# Altium schematic symbol library USB Connectors WR-USB.SchLib: 46 symbols
Pins are listed as number, name and electrical type; pins without a type are passive.

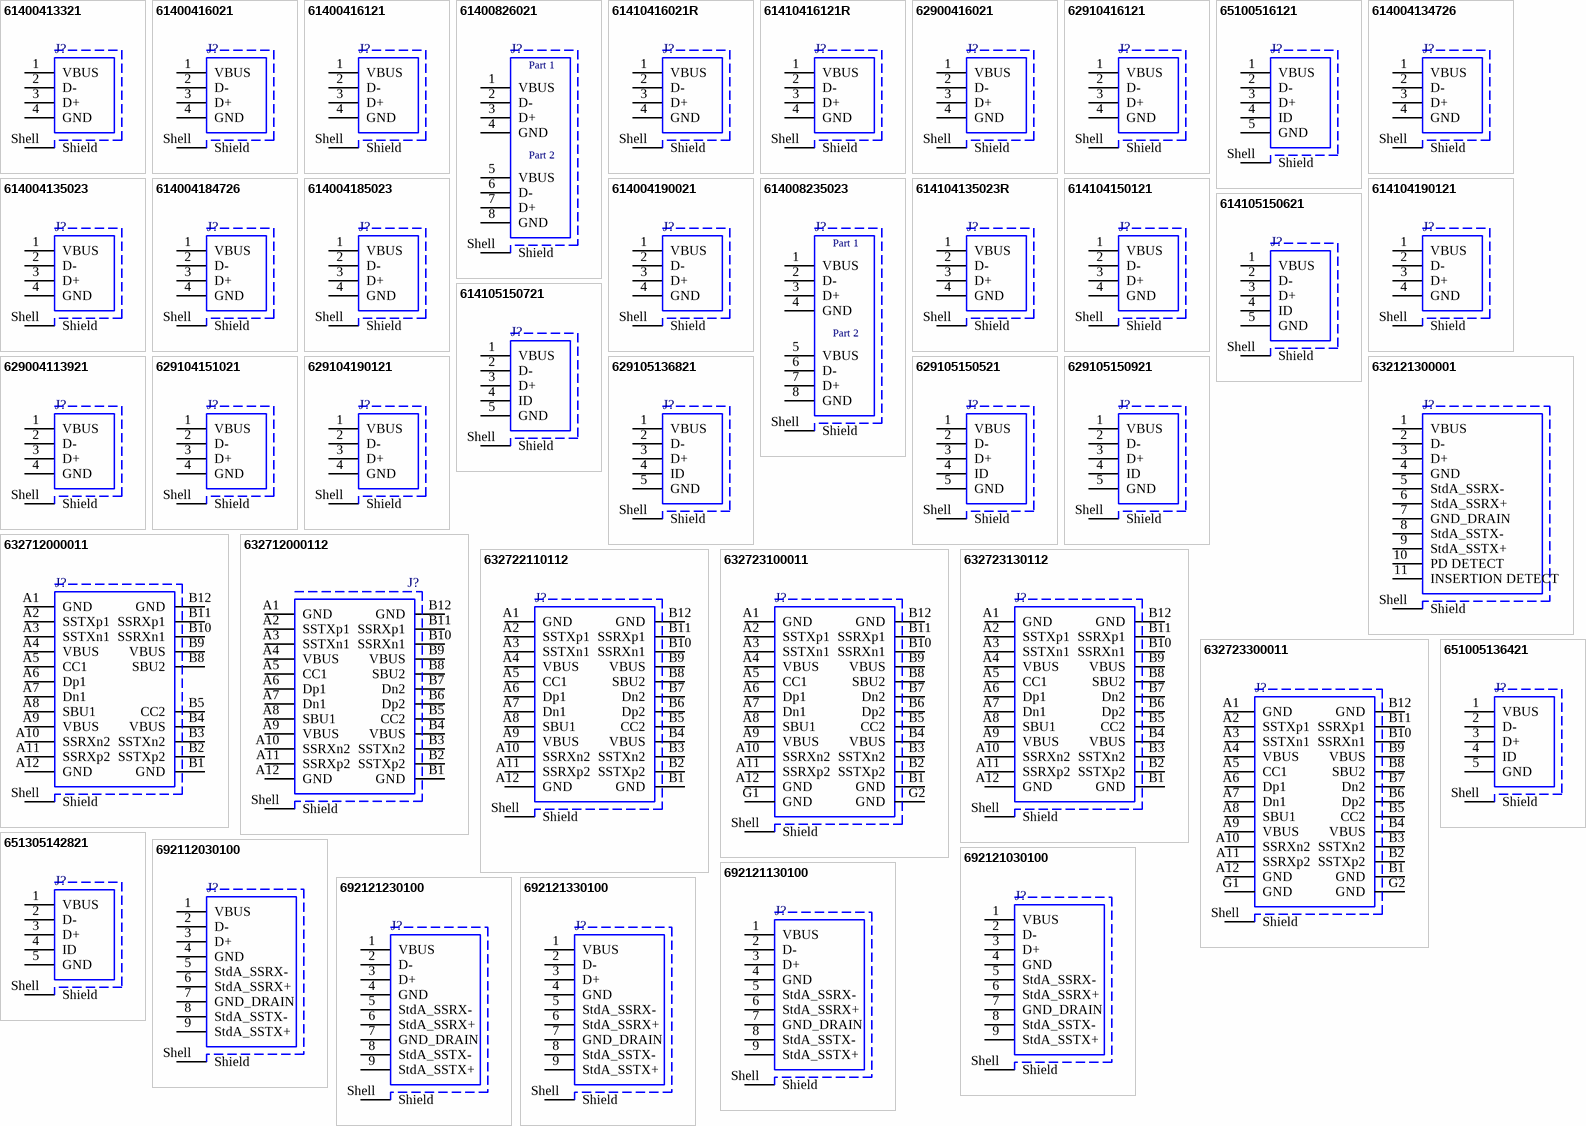
[diagram p0: symbols 61400413321 to 692121330100]

## 61400413321
designator J?
USB 2.0 Type B Receptacle WR-COM, Vertical, THT; Part Number: 61400413321; Rated Current: 1.5 A; Contact Resistance: 20 mOhm; Working Voltage: 30 VAC; ComponentLink1Description: Manufacturer; ComponentLink1URL: http://www.we-online.de; ComponentLink2Description: Datasheet; ComponentLink2URL: https://katalog.we-online.de/em/datasheet/61400413321.pdf; Published Date: September 2018; Publisher: Wurth Elektronik; Orientation: Vertical; Connector Type: USB 2.0 Type B; Operating Temperature: -40 to 105 degC; Mounting Technology: THT; Gender: Receptacle; Packaging: Tray
footprint 61400413321
pins: 1 VBUS, 2 D-, 3 D+, 4 GND, Shell Shield

## 61400416021
designator J?
USB 2.0 Type A Receptacle WR-COM, Horizontal, THT; Part Number: 61400416021; Rated Current: 1.5 A; Contact Resistance: 20 mOhm; Working Voltage: 30 VAC; ComponentLink1Description: Manufacturer; ComponentLink1URL: http://www.we-online.de; ComponentLink2Description: Datasheet; ComponentLink2URL: https://katalog.we-online.de/em/datasheet/61400416021.pdf; Published Date: September 2018; Publisher: Wurth Elektronik; Orientation: Horizontal; Connector Type: USB 2.0 Type A; Operating Temperature: -40 to 105 degC; Mounting Technology: THT; Gender: Receptacle; Packaging: Tray
footprint 61400416021
pins: 1 VBUS, 2 D-, 3 D+, 4 GND, Shell Shield

## 61400416121
designator J?
USB 2.0 Type B Receptacle WR-COM, Horizontal, THT, with Pads and Pegs; Part Number: 61400416121; Rated Current: 1.5 A; Contact Resistance: 20 mOhm; Working Voltage: 30 VAC; ComponentLink1Description: Manufacturer; ComponentLink1URL: http://www.we-online.de; ComponentLink2Description: Datasheet; ComponentLink2URL: https://katalog.we-online.de/em/datasheet/61400416121.pdf; Published Date: September 2018; Publisher: Wurth Elektronik; Orientation: Horizontal; Connector Type: USB 2.0 Type B; Operating Temperature: -40 to 105 degC; Mounting Technology: THT; Gender: Receptacle; Packaging: Tray
footprint 61400416121
pins: 1 VBUS, 2 D-, 3 D+, 4 GND, Shell Shield

## 61400826021
designator J?
USB 2.0 Type A Receptacle WR-COM, Stacked Horizontal, THT; Part Number: 61400826021; Rated Current: 1.5 A; Contact Resistance: 20 mOhm; Working Voltage: 30 VAC; ComponentLink1Description: Manufacturer; ComponentLink1URL: http://www.we-online.de; ComponentLink2Description: Datasheet; ComponentLink2URL: https://katalog.we-online.de/em/datasheet/61400826021.pdf; Published Date: September 2018; Publisher: Wurth Elektronik; Orientation: Stacked Horizontal; Connector Type: USB 2.0 Type A; Operating Temperature: -40 to 105 degC; Mounting Technology: THT; Gender: Receptacle; Packaging: Tray
footprint 61400826021
pins: 1 VBUS, 2 D-, 3 D+, 4 GND, 5 VBUS, 6 D-, 7 D+, 8 GND, Shell Shield
text: Part 1; Part 2

## 61410416021R
designator J?
USB 2.0 Type A Receptacle WR-COM, Horizontal, SMT; Part Number: 61410416021R; Rated Current: 1.5 A; Contact Resistance: 30 mOhm; Working Voltage: 30 VAC; ComponentLink1Description: Manufacturer; ComponentLink1URL: http://www.we-online.de; ComponentLink2Description: Datasheet; ComponentLink2URL: https://katalog.we-online.de/em/datasheet/61410416021R.pdf; Published Date: September 2018; Publisher: Wurth Elektronik; Orientation: Horizontal; Connector Type: USB 2.0 Type A; Operating Temperature: -55 to 85 degC; Mounting Technology: SMT; Gender: Receptacle; Packaging: Tape and Reel
footprint 61410416021R
pins: 1 VBUS, 2 D-, 3 D+, 4 GND, Shell Shield

## 61410416121R
designator J?
USB 2.0 Type B Receptacle WR-COM, Horizontal, SMT; Part Number: 61410416121R; Rated Current: 1.5 A; Contact Resistance: 30 mOhm; Working Voltage: 30 VAC; ComponentLink1Description: Manufacturer; ComponentLink1URL: http://www.we-online.de; ComponentLink2Description: Datasheet; ComponentLink2URL: https://katalog.we-online.de/em/datasheet/61410416121R.pdf; Published Date: September 2018; Publisher: Wurth Elektronik; Orientation: Horizontal; Connector Type: USB 2.0 Type B; Operating Temperature: -55 to 85 degC; Mounting Technology: SMT; Gender: Receptacle; Packaging: Tape and Reel
footprint 61410416121R
pins: 1 VBUS, 2 D-, 3 D+, 4 GND, Shell Shield

## 62900416021
designator J?
USB 2.0 Type A Receptacle WR-COM, Horizontal, SMT; Part Number: 62900416021; Rated Current: 1.5 A; Contact Resistance: 20 mOhm; Working Voltage: 30 VAC; ComponentLink1Description: Manufacturer; ComponentLink1URL: http://www.we-online.de; ComponentLink2Description: Datasheet; ComponentLink2URL: https://katalog.we-online.de/em/datasheet/62900416021.pdf; Published Date: September 2018; Publisher: Wurth Elektronik; Orientation: Horizontal; Connector Type: USB 2.0 Type A; Operating Temperature: -40 to 105 degC; Mounting Technology: SMT; Gender: Receptacle; Packaging: Tray
footprint 62900416021
pins: 1 VBUS, 2 D-, 3 D+, 4 GND, Shell Shield

## 62910416121
designator J?
USB 2.0 Type B Receptacle WR-COM, Horizontal, SMT, with Pads and Pegs; Part Number: 62910416121; Rated Current: 1.5 A; Contact Resistance: 20 mOhm; Working Voltage: 30 VAC; ComponentLink1Description: Manufacturer; ComponentLink1URL: http://www.we-online.de; ComponentLink2Description: Datasheet; ComponentLink2URL: https://katalog.we-online.de/em/datasheet/62910416121.pdf; Published Date: September 2018; Publisher: Wurth Elektronik; Orientation: Horizontal; Connector Type: USB 2.0 Type B; Operating Temperature: -40 to 105 degC; Mounting Technology: SMT; Gender: Receptacle; Packaging: Tape and Reel
footprint 62910416121
pins: 1 VBUS, 2 D-, 3 D+, 4 GND, Shell Shield

## 65100516121
designator J?
Mini USB 2.0 Type B Receptacle WR-COM, Horizontal, SMT, with Pads and Pegs; Part Number: 65100516121; Rated Current: 1 A; Contact Resistance: 20 mOhm; Working Voltage: 30 VAC; ComponentLink1Description: Manufacturer; ComponentLink1URL: http://www.we-online.de; ComponentLink2Description: Datasheet; ComponentLink2URL: https://katalog.we-online.de/em/datasheet/65100516121.pdf; Published Date: September 2018; Publisher: Wurth Elektronik; Orientation: Horizontal; Connector Type: Mini USB 2.0 Type B; Operating Temperature: -40 to 105 degC; Mounting Technology: SMT; Gender: Receptacle; Packaging: Tape and Reel
footprint 65100516121
pins: 1 VBUS, 2 D-, 3 D+, 4 ID, 5 GND, Shell Shield

## 614004134726
designator J?
USB 2.0 Type A Receptacle WR-COM, Up Right, THT; Part Number: 614004134726; Rated Current: 1.5 A; Contact Resistance: 20 mOhm; Working Voltage: 30 VAC; ComponentLink1Description: Manufacturer; ComponentLink1URL: http://www.we-online.de; ComponentLink2Description: Datasheet; ComponentLink2URL: https://katalog.we-online.de/em/datasheet/614004134726.pdf; Published Date: September 2018; Publisher: Wurth Elektronik; Orientation: Up Right; Connector Type: USB 2.0 Type A; Operating Temperature: -40 to 105 degC; Mounting Technology: THT; Gender: Receptacle; Packaging: Tray
footprint 614004134726
pins: 1 VBUS, 2 D-, 3 D+, 4 GND, Shell Shield

## 614004135023
designator J?
USB 2.0 Type A Receptacle WR-COM, Vertical, THT; Part Number: 614004135023; Rated Current: 1.5 A; Contact Resistance: 20 mOhm; Working Voltage: 30 VAC; ComponentLink1Description: Manufacturer; ComponentLink1URL: http://www.we-online.de; ComponentLink2Description: Datasheet; ComponentLink2URL: https://katalog.we-online.de/em/datasheet/614004135023.pdf; Published Date: September 2018; Publisher: Wurth Elektronik; Orientation: Vertical; Connector Type: USB 2.0 Type A; Operating Temperature: -40 to 105 degC; Mounting Technology: THT; Gender: Receptacle; Packaging: Tray
footprint 614004135023
pins: 1 VBUS, 2 D-, 3 D+, 4 GND, Shell Shield

## 614004184726
designator J?
USB 2.0 Type A Receptacle WR-COM, Up Right, THT, Short Type; Part Number: 614004184726; Rated Current: 2 A; Contact Resistance: 30 mOhm; Working Voltage: 30 VAC; ComponentLink1Description: Manufacturer; ComponentLink1URL: http://www.we-online.de; ComponentLink2Description: Datasheet; ComponentLink2URL: https://katalog.we-online.de/em/datasheet/614004184726.pdf; Published Date: September 2018; Publisher: Wurth Elektronik; Orientation: Up Right; Connector Type: USB 2.0 Type A; Operating Temperature: -40 to 85 degC; Mounting Technology: THT; Gender: Receptacle; Packaging: Tray
footprint 614004184726
pins: 1 VBUS, 2 D-, 3 D+, 4 GND, Shell Shield

## 614004185023
designator J?
USB 2.0 Type A Receptacle WR-COM, Vertical, THT, Short Type; Part Number: 614004185023; Rated Current: 1.5 A; Contact Resistance: 30 mOhm; Working Voltage: 30 VAC; ComponentLink1Description: Manufacturer; ComponentLink1URL: http://www.we-online.de; ComponentLink2Description: Datasheet; ComponentLink2URL: https://katalog.we-online.de/em/datasheet/614004185023.pdf; Published Date: September 2018; Publisher: Wurth Elektronik; Orientation: Vertical; Connector Type: USB 2.0 Type A; Operating Temperature: -55 to 85 degC; Mounting Technology: THT; Gender: Receptacle; Packaging: Tray
footprint 614004185023
pins: 1 VBUS, 2 D-, 3 D+, 4 GND, Shell Shield

## 614004190021
designator J?
USB 2.0 Type A Receptacle WR-COM, Horizontal, THT, with High Current at Pin 1 & 4; Part Number: 614004190021; Rated Current: 3 A; Contact Resistance: 30 mOhm; Working Voltage: 30 VAC; ComponentLink1Description: Manufacturer; ComponentLink1URL: http://www.we-online.de; ComponentLink2Description: Datasheet; ComponentLink2URL: https://katalog.we-online.de/em/datasheet/614004190021.pdf; Published Date: September 2018; Publisher: Wurth Elektronik; Orientation: Horizontal; Connector Type: USB 2.0 Type A; Operating Temperature: -40 to 85 degC; Mounting Technology: THT; Gender: Receptacle; Packaging: Tray
footprint 614004190021
pins: 1 VBUS, 2 D-, 3 D+, 4 GND, Shell Shield

## 614008235023
designator J?
USB 2.0 Type A Receptacle WR-COM, Stacked Vertical, THT; Part Number: 614008235023; Rated Current: 1.5 A; Contact Resistance: 20 mOhm; Working Voltage: 30 VAC; ComponentLink1Description: Manufacturer; ComponentLink1URL: http://www.we-online.de; ComponentLink2Description: Datasheet; ComponentLink2URL: https://katalog.we-online.de/em/datasheet/614008235023.pdf; Published Date: September 2018; Publisher: Wurth Elektronik; Orientation: Stacked Vertical; Connector Type: USB 2.0 Type A; Operating Temperature: -40 to 105 degC; Mounting Technology: THT; Gender: Receptacle; Packaging: Tray
footprint 614008235023
pins: 1 VBUS, 2 D-, 3 D+, 4 GND, 5 VBUS, 6 D-, 7 D+, 8 GND, Shell Shield
text: Part 1; Part 2

## 614104135023R
designator J?
USB 2.0 Type A Receptacle WR-COM, Vertical, SMT; Part Number: 614104135023R; Rated Current: 1.5 A; Contact Resistance: 30 mOhm; Working Voltage: 30 VAC; ComponentLink1Description: Manufacturer; ComponentLink1URL: http://www.we-online.de; ComponentLink2Description: Datasheet; ComponentLink2URL: https://katalog.we-online.de/em/datasheet/614104135023R.pdf; Published Date: September 2018; Publisher: Wurth Elektronik; Orientation: Vertical; Connector Type: USB 2.0 Type A; Operating Temperature: -55 to 85 degC; Mounting Technology: SMT; Gender: Receptacle; Packaging: Tape and Reel
footprint 614104135023R
pins: 1 VBUS, 2 D-, 3 D+, 4 GND, Shell Shield

## 614104150121
designator J?
USB 2.0 Type A Receptacle WR-COM, Horizontal, THT, with Clips; Part Number: 614104150121; Rated Current: 1.5 A; Contact Resistance: 30 mOhm; Working Voltage: 30 VAC; ComponentLink1Description: Manufacturer; ComponentLink1URL: http://www.we-online.de; ComponentLink2Description: Datasheet; ComponentLink2URL: https://katalog.we-online.de/em/datasheet/614104150121%282%29.pdf; Published Date: September 2018; Publisher: Wurth Elektronik; Orientation: Horizontal; Connector Type: USB 2.0 Type A; Operating Temperature: -40 to 85 degC; Mounting Technology: THT; Gender: Receptacle; Packaging: Tape and Reel
footprint 614104150121
pins: 1 VBUS, 2 D-, 3 D+, 4 GND, Shell Shield

## 614104190121
designator J?
USB 2.0 Type A Receptacle WR-COM, Horizontal, THT, Short Type with Clips; Part Number: 614104190121; Rated Current: 1.5 A; Contact Resistance: 30 mOhm; Working Voltage: 30 VAC; ComponentLink1Description: Manufacturer; ComponentLink1URL: http://www.we-online.de; ComponentLink2Description: Datasheet; ComponentLink2URL: https://katalog.we-online.de/em/datasheet/614104190121.pdf; Published Date: September 2018; Publisher: Wurth Elektronik; Orientation: Horizontal; Connector Type: USB 2.0 Type A; Operating Temperature: -55 to 85 degC; Mounting Technology: THT; Gender: Receptacle; Packaging: Tape and Reel
footprint 614104190121
pins: 1 VBUS, 2 D-, 3 D+, 4 GND, Shell Shield

## 614105150621
designator J?
Micro USB 2.0 Type AB Receptacle WR-COM, Vertical, THT; Part Number: 614105150621; Rated Current: 1.8 A; Contact Resistance: 30 mOhm; Working Voltage: 30 VAC; ComponentLink1Description: Manufacturer; ComponentLink1URL: http://www.we-online.de; ComponentLink2Description: Datasheet; ComponentLink2URL: https://katalog.we-online.de/em/datasheet/614105150621.pdf; Published Date: September 2018; Publisher: Wurth Elektronik; Orientation: Vertical; Connector Type: Micro USB 2.0 Type AB; Operating Temperature: -40 to 85 degC; Mounting Technology: THT; Gender: Receptacle; Packaging: Tape and Reel
footprint 614105150621
pins: 1 VBUS, 2 D-, 3 D+, 4 ID, 5 GND, Shell Shield

## 614105150721
designator J?
Micro USB 2.0 Type B Receptacle WR-COM, Vertical, THT; Part Number: 614105150721; Rated Current: 1.8 A; Contact Resistance: 30 mOhm; Working Voltage: 30 VAC; ComponentLink1Description: Manufacturer; ComponentLink1URL: http://www.we-online.de; ComponentLink2Description: Datasheet; ComponentLink2URL: https://katalog.we-online.de/em/datasheet/614105150721.pdf; Published Date: September 2018; Publisher: Wurth Elektronik; Orientation: Vertical; Connector Type: Micro USB 2.0 Type B; Operating Temperature: -40 to 85 degC; Mounting Technology: THT; Gender: Receptacle; Packaging: Tape and Reel
footprint 614105150721
pins: 1 VBUS, 2 D-, 3 D+, 4 ID, 5 GND, Shell Shield

## 629004113921
designator J?
USB 2.0 Type A Plug WR-COM, Horizontal, SMT, with Clips; Part Number: 629004113921; Rated Current: 1.5 A; Contact Resistance: 20 mOhm; Working Voltage: 30 VAC; ComponentLink1Description: Manufacturer; ComponentLink1URL: http://www.we-online.de; ComponentLink2Description: Datasheet; ComponentLink2URL: https://katalog.we-online.de/em/datasheet/629004113921.pdf; Published Date: September 2018; Publisher: Wurth Elektronik; Orientation: Horizontal; Connector Type: USB 2.0 Type A; Operating Temperature: -40 to 105 degC; Mounting Technology: SMT; Gender: Plug; Packaging: Tube
footprint 629004113921
pins: 1 VBUS, 2 D-, 3 D+, 4 GND, Shell Shield

## 629104151021
designator J?
USB 2.0 Type A Receptacle WR-COM, Horizontal, SMT, with Pegs; Part Number: 629104151021; Rated Current: 1.5 A; Contact Resistance: 30 mOhm; Working Voltage: 30 VAC; ComponentLink1Description: Manufacturer; ComponentLink1URL: http://www.we-online.de; ComponentLink2Description: Datasheet; ComponentLink2URL: https://katalog.we-online.de/em/datasheet/629104151021.pdf; Published Date: September 2018; Publisher: Wurth Elektronik; Orientation: Horizontal; Connector Type: USB 2.0 Type A; Operating Temperature: -40 to 85 degC; Mounting Technology: SMT; Gender: Receptacle; Packaging: Tape and Reel
footprint 629104151021
pins: 1 VBUS, 2 D-, 3 D+, 4 GND, Shell Shield

## 629104190121
designator J?
USB 2.0 Type A Receptacle WR-COM, Horizontal, SMT, Short Type with Pads and Pegs; Part Number: 629104190121; Rated Current: 1.5 A; Contact Resistance: 30 mOhm; Working Voltage: 30 VAC; ComponentLink1Description: Manufacturer; ComponentLink1URL: http://www.we-online.de; ComponentLink2Description: Datasheet; ComponentLink2URL: https://katalog.we-online.de/em/datasheet/629104190121.pdf; Published Date: September 2018; Publisher: Wurth Elektronik; Orientation: Horizontal; Connector Type: USB 2.0 Type A; Operating Temperature: -40 to 85 degC; Mounting Technology: SMT; Gender: Receptacle; Packaging: Tape and Reel
footprint 629104190121
pins: 1 VBUS, 2 D-, 3 D+, 4 GND, Shell Shield

## 629105136821
designator J?
Micro USB 2.0 Type B Receptacle WR-COM, Horizontal, SMT, with Pads and Pegs; Part Number: 629105136821; Rated Current: 1 A; Contact Resistance: 30 mOhm; Working Voltage: 30 VAC; ComponentLink1Description: Manufacturer; ComponentLink1URL: http://www.we-online.de; ComponentLink2Description: Datasheet; ComponentLink2URL: https://katalog.we-online.de/em/datasheet/629105136821.pdf; Published Date: September 2018; Publisher: Wurth Elektronik; Orientation: Horizontal; Connector Type: Micro USB 2.0 Type B; Operating Temperature: -40 to 105 degC; Mounting Technology: SMT; Gender: Receptacle; Packaging: Tape and Reel
footprint 629105136821
pins: 1 VBUS, 2 D-, 3 D+, 4 ID, 5 GND, Shell Shield

## 629105150521
designator J?
Micro USB 2.0 Type B Receptacle WR-COM, Horizontal, SMT, with Pegs, High Current at Pin 1 & Pin 5; Part Number: 629105150521; Rated Current: 3 A; Contact Resistance: 30 mOhm; Working Voltage: 30 VAC; ComponentLink1Description: Manufacturer; ComponentLink1URL: http://www.we-online.de; ComponentLink2Description: Datasheet; ComponentLink2URL: https://katalog.we-online.de/em/datasheet/629105150521.pdf; Published Date: September 2018; Publisher: Wurth Elektronik; Orientation: Horizontal; Connector Type: Micro USB 2.0 Type B; Operating Temperature: -40 to 85 degC; Mounting Technology: SMT; Gender: Receptacle; Packaging: Tape and Reel
footprint 629105150521
pins: 1 VBUS, 2 D-, 3 D+, 4 ID, 5 GND, Shell Shield

## 629105150921
designator J?
Micro USB 2.0 Type AB Receptacle WR-COM, Horizontal, SMT; Part Number: 629105150921; Rated Current: 1.8 A; Contact Resistance: 30 mOhm; Working Voltage: 30 VAC; ComponentLink1Description: Manufacturer; ComponentLink1URL: http://www.we-online.de; ComponentLink2Description: Datasheet; ComponentLink2URL: https://katalog.we-online.de/em/datasheet/629105150921.pdf; Published Date: September 2018; Publisher: Wurth Elektronik; Orientation: Horizontal; Connector Type: Micro USB 2.0 Type AB; Operating Temperature: -40 to 85 degC; Mounting Technology: SMT; Gender: Receptacle; Packaging: Tape and Reel
footprint 629105150921
pins: 1 VBUS, 2 D-, 3 D+, 4 ID, 5 GND, Shell Shield

## 632121300001
designator J?
USB 3.1 Type A Receptacle WR-COM, Horizontal, THT; Part Number: 632121300001; Rated Current: 5 A; Contact Resistance: 50 mOhm; Working Voltage: 20 VDC; ComponentLink1Description: Manufacturer; ComponentLink1URL: http://www.we-online.de; ComponentLink2Description: Datasheet; ComponentLink2URL: https://katalog.we-online.de/em/datasheet/632121300001.pdf; Published Date: September 2018; Publisher: Wurth Elektronik; Orientation: Horizontal; Connector Type: USB 3.1 Type A; Operating Temperature: -20 to 85 degC; Mounting Technology: THT; Gender: Receptacle; Packaging: Tray
footprint 632121300001
pins: 1 VBUS, 2 D-, 3 D+, 4 GND, 5 StdA_SSRX-, 6 StdA_SSRX+, 7 GND_DRAIN, 8 StdA_SSTX-, 9 StdA_SSTX+, 10 PD DETECT, 11 INSERTION DETECT, Shell Shield

## 632712000011
designator J?
USB 3.1 Type C Plug WR-COM, Horizontal, SMT; Part Number: 632712000011; Rated Current: 5 A; Contact Resistance: 30 mOhm; Working Voltage: 20 VDC; ComponentLink1Description: Manufacturer; ComponentLink1URL: http://www.we-online.de; ComponentLink2Description: Datasheet; ComponentLink2URL: https://katalog.we-online.de/em/datasheet/632712000011.pdf; Published Date: September 2018; Publisher: Wurth Elektronik; Orientation: Horizontal; Connector Type: USB 3.1 Type C; Operating Temperature: -25 to 105 degC; Mounting Technology: SMT; Gender: Plug; Packaging: Tape and Reel
footprint 632712000011
pins: A1 GND, A2 SSTXp1, A3 SSTXn1, A4 VBUS, A5 CC1, A6 Dp1, A7 Dn1, A8 SBU1, A9 VBUS, A10 SSRXn2, A11 SSRXp2, A12 GND, B1 GND, B2 SSTXp2, B3 SSTXn2, B4 VBUS, B5 CC2, B8 SBU2, B9 VBUS, B10 SSRXn1, B11 SSRXp1, B12 GND, Shell Shield

## 632712000112
designator J?
USB 3.1 Type C Plug WR-COM, Horizontal, SMT; Part Number: 632712000112; Rated Current: 5 A; Working Voltage: 20 VDC; Contact Resistance: 40 mOhm; ComponentLink1Description: Manufacturer; ComponentLink1URL: http://www.we-online.de; ComponentLink2Description: Datasheet; ComponentLink2URL: https://katalog.we-online.de/em/datasheet/632712000112.pdf; Published Date: November 2018; Publisher: Wurth Elektronik; Orientation: Horizontal; Connector Type: USB 3.1 Type C; Operating Temperature: -40 to 85 degC; Mounting Technology: SMT; Gender: Plug; Packaging: Tray
footprint 632712000112
pins: A1 GND, A2 SSTXp1, A3 SSTXn1, A4 VBUS, A5 CC1, A6 Dp1, A7 Dn1, A8 SBU1, A9 VBUS, A10 SSRXn2, A11 SSRXp2, A12 GND, B1 GND, B2 SSTXp2, B3 SSTXn2, B4 VBUS, B5 CC2, B6 Dp2, B7 Dn2, B8 SBU2, B9 VBUS, B10 SSRXn1, B11 SSRXp1, B12 GND, Shell Shield

## 632722110112
designator J?
USB 3.1 Type C Receptacle WR-COM, Vertical, SMT; Part Number: 632722110112; Rated Current: 5 A; Working Voltage: 20 VDC; Contact Resistance: 40 mOhm; ComponentLink1Description: Manufacturer; ComponentLink1URL: http://www.we-online.de; ComponentLink2Description: Datasheet; ComponentLink2URL: https://katalog.we-online.de/em/datasheet/632722110112.pdf; Published Date: November 2018; Publisher: Wurth Elektronik; Orientation: Vertical; Connector Type: USB 3.1 Type C; Operating Temperature: -40 to 85 degC; Mounting Technology: SMT; Gender: Receptacle; Packaging: Tape and Reel
footprint 632722110112
pins: A1 GND, A2 SSTXp1, A3 SSTXn1, A4 VBUS, A5 CC1, A6 Dp1, A7 Dn1, A8 SBU1, A9 VBUS, A10 SSRXn2, A11 SSRXp2, A12 GND, B1 GND, B2 SSTXp2, B3 SSTXn2, B4 VBUS, B5 CC2, B6 Dp2, B7 Dn2, B8 SBU2, B9 VBUS, B10 SSRXn1, B11 SSRXp1, B12 GND, Shell Shield

## 632723100011
designator J?
USB 3.1 Type C Receptacle WR-COM, Horizontal, SMT / THT; Part Number: 632723100011; Rated Current: 5 A; Contact Resistance: 30 mOhm; Working Voltage: 20 VDC; ComponentLink1Description: Manufacturer; ComponentLink1URL: http://www.we-online.de; ComponentLink2Description: Datasheet; ComponentLink2URL: https://katalog.we-online.de/em/datasheet/632723x00011%282%29.pdf; Published Date: September 2018; Publisher: Wurth Elektronik; Orientation: Horizontal; Connector Type: USB 3.1 Type C; Operating Temperature: -40 to 105 degC; Mounting Technology: SMT / THT; Gender: Receptacle; Packaging: Tape and Reel
footprint 632723100011
pins: A1 GND, A2 SSTXp1, A3 SSTXn1, A4 VBUS, A5 CC1, A6 Dp1, A7 Dn1, A8 SBU1, A9 VBUS, A10 SSRXn2, A11 SSRXp2, A12 GND, B1 GND, B2 SSTXp2, B3 SSTXn2, B4 VBUS, B5 CC2, B6 Dp2, B7 Dn2, B8 SBU2, B9 VBUS, B10 SSRXn1, B11 SSRXp1, B12 GND, G1 GND, G2 GND, Shell Shield

## 632723130112
designator J?
USB 3.1 Type C Receptacle WR-COM, Horizontal, THR / SMT; Part Number: 632723130112; Rated Current: 5 A; Working Voltage: 20 VDC; Contact Resistance: 40 mOhm; ComponentLink1Description: Manufacturer; ComponentLink1URL: http://www.we-online.de; ComponentLink2Description: Datasheet; ComponentLink2URL: https://katalog.we-online.de/em/datasheet/632723130112.pdf; Published Date: November 2018; Publisher: Wurth Elektronik; Orientation: Horizontal; Connector Type: USB 3.1 Type C; Operating Temperature: -40 to 85 degC; Mounting Technology: THR / SMT; Gender: Receptacle; Packaging: Tape and Reel
footprint 632723130112
pins: A1 GND, A2 SSTXp1, A3 SSTXn1, A4 VBUS, A5 CC1, A6 Dp1, A7 Dn1, A8 SBU1, A9 VBUS, A10 SSRXn2, A11 SSRXp2, A12 GND, B1 GND, B2 SSTXp2, B3 SSTXn2, B4 VBUS, B5 CC2, B6 Dp2, B7 Dn2, B8 SBU2, B9 VBUS, B10 SSRXn1, B11 SSRXp1, B12 GND, Shell Shield

## 632723300011
designator J?
USB 3.1 Type C Receptacle WR-COM, Horizontal, SMT / THT; Part Number: 632723300011; Rated Current: 5 A; Contact Resistance: 30 mOhm; Working Voltage: 20 VDC; ComponentLink1Description: Manufacturer; ComponentLink1URL: http://www.we-online.de; ComponentLink2Description: Datasheet; ComponentLink2URL: https://katalog.we-online.de/em/datasheet/632723x00011%282%29.pdf; Published Date: September 2018; Publisher: Wurth Elektronik; Orientation: Horizontal; Connector Type: USB 3.1 Type C; Operating Temperature: -40 to 105 degC; Mounting Technology: SMT / THT; Gender: Receptacle; Packaging: Tape and Reel
footprint 632723300011
pins: A1 GND, A2 SSTXp1, A3 SSTXn1, A4 VBUS, A5 CC1, A6 Dp1, A7 Dn1, A8 SBU1, A9 VBUS, A10 SSRXn2, A11 SSRXp2, A12 GND, B1 GND, B2 SSTXp2, B3 SSTXn2, B4 VBUS, B5 CC2, B6 Dp2, B7 Dn2, B8 SBU2, B9 VBUS, B10 SSRXn1, B11 SSRXp1, B12 GND, G1 GND, G2 GND, Shell Shield

## 651005136421
designator J?
Mini USB 2.0 Type B Receptacle WR-COM, Vertical, THT; Part Number: 651005136421; Rated Current: 1 A; Contact Resistance: 20 mOhm; Working Voltage: 30 VAC; ComponentLink1Description: Manufacturer; ComponentLink1URL: http://www.we-online.de; ComponentLink2Description: Datasheet; ComponentLink2URL: https://katalog.we-online.de/em/datasheet/651005136421%282%29.pdf; Published Date: September 2018; Publisher: Wurth Elektronik; Orientation: Vertical; Connector Type: Mini USB 2.0 Type B; Operating Temperature: -40 to 105 degC; Mounting Technology: THT; Gender: Receptacle; Packaging: Tray
footprint 651005136421
pins: 1 VBUS, 2 D-, 3 D+, 4 ID, 5 GND, Shell Shield

## 651305142821
designator J?
Mini USB 2.0 Type AB Receptacle WR-COM, Horizontal, SMT, with Pads; Part Number: 651305142821; Rated Current: 1 A; Contact Resistance: 20 mOhm; Working Voltage: 30 VAC; ComponentLink1Description: Manufacturer; ComponentLink1URL: http://www.we-online.de; ComponentLink2Description: Datasheet; ComponentLink2URL: https://katalog.we-online.de/em/datasheet/651305142821.pdf; Published Date: September 2018; Publisher: Wurth Elektronik; Orientation: Horizontal; Connector Type: Mini USB 2.0 Type AB; Operating Temperature: -40 to 105 degC; Mounting Technology: SMT; Gender: Receptacle; Packaging: Tape and Reel
footprint 651305142821
pins: 1 VBUS, 2 D-, 3 D+, 4 ID, 5 GND, Shell Shield

## 692112030100
designator J?
USB 3.0 Type A Plug WR-COM, Horizontal, SMT, with Pegs and Clips; Part Number: 692112030100; Rated Current: 0.25 A; Contact Resistance: 50 mOhm; Working Voltage: 30 VAC; ComponentLink1Description: Manufacturer; ComponentLink1URL: http://www.we-online.de; ComponentLink2Description: Datasheet; ComponentLink2URL: https://katalog.we-online.de/em/datasheet/692112030100.pdf; Published Date: September 2018; Publisher: Wurth Elektronik; Orientation: Horizontal; Connector Type: USB 3.0 Type A; Operating Temperature: -20 to 85 degC; Mounting Technology: SMT; Gender: Plug; Packaging: Tray
footprint 692112030100
pins: 1 VBUS, 2 D-, 3 D+, 4 GND, 5 StdA_SSRX-, 6 StdA_SSRX+, 7 GND_DRAIN, 8 StdA_SSTX-, 9 StdA_SSTX+, Shell Shield

## 692121030100
designator J?
USB 3.0 Type A Receptacle WR-COM, Horizontal, THT; Part Number: 692121030100; Rated Current: 0.25 A; Contact Resistance: 50 mOhm; Working Voltage: 30 VAC; ComponentLink1Description: Manufacturer; ComponentLink1URL: http://www.we-online.de; ComponentLink2Description: Datasheet; ComponentLink2URL: https://katalog.we-online.de/em/datasheet/692121030100.pdf; Published Date: September 2018; Publisher: Wurth Elektronik; Orientation: Horizontal; Connector Type: USB 3.0 Type A; Operating Temperature: -20 to 85 degC; Mounting Technology: THT; Gender: Receptacle; Packaging: Tape and Reel
footprint 692121030100
pins: 1 VBUS, 2 D-, 3 D+, 4 GND, 5 StdA_SSRX-, 6 StdA_SSRX+, 7 GND_DRAIN, 8 StdA_SSTX-, 9 StdA_SSTX+, Shell Shield

## 692121130100
designator J?
USB 3.0 Type A Receptacle WR-COM, Reverse Horizontal, SMT / THT, with Clips, with 0.14 mm Offset; Part Number: 692121130100; Rated Current: 0.25 A; Contact Resistance: 50 mOhm; Working Voltage: 30 VAC; ComponentLink1Description: Manufacturer; ComponentLink1URL: http://www.we-online.de; ComponentLink2Description: Datasheet; ComponentLink2URL: https://katalog.we-online.de/em/datasheet/692121130100.pdf; Published Date: September 2018; Publisher: Wurth Elektronik; Orientation: Reverse Horizontal; Connector Type: USB 3.0 Type A; Operating Temperature: -20 to 85 degC; Mounting Technology: SMT / THT; Gender: Receptacle; Packaging: Tape and Reel
footprint 692121130100
pins: 1 VBUS, 2 D-, 3 D+, 4 GND, 5 StdA_SSRX-, 6 StdA_SSRX+, 7 GND_DRAIN, 8 StdA_SSTX-, 9 StdA_SSTX+, Shell Shield

## 692121230100
designator J?
USB 3.0 Type A Receptacle WR-COM, Horizontal, THT, with Clips, with 1.04 mm Offset; Part Number: 692121230100; Rated Current: 0.25 A; Contact Resistance: 50 mOhm; Working Voltage: 30 VAC; ComponentLink1Description: Manufacturer; ComponentLink1URL: http://www.we-online.de; ComponentLink2Description: Datasheet; ComponentLink2URL: https://katalog.we-online.de/em/datasheet/692121230100.pdf; Published Date: September 2018; Publisher: Wurth Elektronik; Orientation: Horizontal; Connector Type: USB 3.0 Type A; Operating Temperature: -20 to 85 degC; Mounting Technology: THT; Gender: Receptacle; Packaging: Tape and Reel
footprint 692121230100
pins: 1 VBUS, 2 D-, 3 D+, 4 GND, 5 StdA_SSRX-, 6 StdA_SSRX+, 7 GND_DRAIN, 8 StdA_SSTX-, 9 StdA_SSTX+, Shell Shield

## 692121330100
designator J?
USB 3.0 Type A Receptacle WR-COM, Reverse Horizontal, SMT / THT, with Clips, with 1.75 mm Offset; Part Number: 692121330100; Rated Current: 0.25 A; Contact Resistance: 50 mOhm; Working Voltage: 30 VAC; ComponentLink1Description: Manufacturer; ComponentLink1URL: http://www.we-online.de; ComponentLink2Description: Datasheet; ComponentLink2URL: https://katalog.we-online.de/em/datasheet/692121330100.pdf; Published Date: September 2018; Publisher: Wurth Elektronik; Orientation: Reverse Horizontal; Connector Type: USB 3.0 Type A; Operating Temperature: -20 to 85 degC; Mounting Technology: SMT / THT; Gender: Receptacle; Packaging: Tape and Reel
footprint 692121330100
pins: 1 VBUS, 2 D-, 3 D+, 4 GND, 5 StdA_SSRX-, 6 StdA_SSRX+, 7 GND_DRAIN, 8 StdA_SSTX-, 9 StdA_SSTX+, Shell Shield

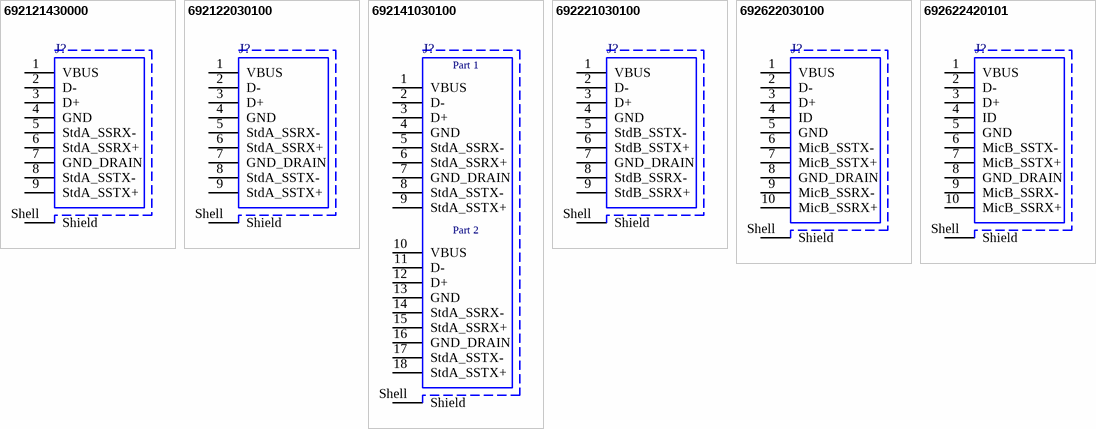
[diagram p1: symbols 692121430000 to 692622420101]

## 692121430000
designator J?
USB 3.0 Type A Receptacle WR-COM, Vertical, THT; Part Number: 692121430000; Rated Current: 0.25 A; Contact Resistance: 50 mOhm; Working Voltage: 30 VAC; ComponentLink1Description: Manufacturer; ComponentLink1URL: http://www.we-online.de; ComponentLink2Description: Datasheet; ComponentLink2URL: https://katalog.we-online.de/em/datasheet/692121430000.pdf; Published Date: September 2018; Publisher: Wurth Elektronik; Orientation: Vertical; Connector Type: USB 3.0 Type A; Operating Temperature: -20 to 85 degC; Mounting Technology: THT; Gender: Receptacle; Packaging: Tray
footprint 692121430000
pins: 1 VBUS, 2 D-, 3 D+, 4 GND, 5 StdA_SSRX-, 6 StdA_SSRX+, 7 GND_DRAIN, 8 StdA_SSTX-, 9 StdA_SSTX+, Shell Shield

## 692122030100
designator J?
USB 3.0 Type A Receptacle WR-COM, Horizontal, SMT, with Pegs; Part Number: 692122030100; Rated Current: 0.25 A; Contact Resistance: 50 mOhm; Working Voltage: 30 VAC; ComponentLink1Description: Manufacturer; ComponentLink1URL: http://www.we-online.de; ComponentLink2Description: Datasheet; ComponentLink2URL: https://katalog.we-online.de/em/datasheet/692122030100.pdf; Published Date: September 2018; Publisher: Wurth Elektronik; Orientation: Horizontal; Connector Type: USB 3.0 Type A; Operating Temperature: -20 to 85 degC; Mounting Technology: SMT; Gender: Receptacle; Packaging: Tape and Reel
footprint 692122030100
pins: 1 VBUS, 2 D-, 3 D+, 4 GND, 5 StdA_SSRX-, 6 StdA_SSRX+, 7 GND_DRAIN, 8 StdA_SSTX-, 9 StdA_SSTX+, Shell Shield

## 692141030100
designator J?
USB 3.0 Type A Receptacle WR-COM, Stacked Horizontal, THT; Part Number: 692141030100; Rated Current: 0.25 A; Contact Resistance: 50 mOhm; Working Voltage: 30 VAC; ComponentLink1Description: Manufacturer; ComponentLink1URL: http://www.we-online.de; ComponentLink2Description: Datasheet; ComponentLink2URL: https://katalog.we-online.de/em/datasheet/692141030100.pdf; Published Date: September 2018; Publisher: Wurth Elektronik; Orientation: Stacked Horizontal; Connector Type: USB 3.0 Type A; Operating Temperature: -40 to 85 degC; Mounting Technology: THT; Gender: Receptacle; Packaging: Tray
footprint 692141030100
pins: 1 VBUS, 2 D-, 3 D+, 4 GND, 5 StdA_SSRX-, 6 StdA_SSRX+, 7 GND_DRAIN, 8 StdA_SSTX-, 9 StdA_SSTX+, 10 VBUS, 11 D-, 12 D+, 13 GND, 14 StdA_SSRX-, 15 StdA_SSRX+, 16 GND_DRAIN, 17 StdA_SSTX-, 18 StdA_SSTX+, Shell Shield
text: Part 1; Part 2

## 692221030100
designator J?
USB 3.0 Type B Receptacle WR-COM, Horizontal, THT; Part Number: 692221030100; Rated Current: 0.25 A; Contact Resistance: 50 mOhm; Working Voltage: 30 VAC; ComponentLink1Description: Manufacturer; ComponentLink1URL: http://www.we-online.de; ComponentLink2Description: Datasheet; ComponentLink2URL: https://katalog.we-online.de/em/datasheet/692221030100.pdf; Published Date: September 2018; Publisher: Wurth Elektronik; Orientation: Horizontal; Connector Type: USB 3.0 Type B; Operating Temperature: -20 to 85 degC; Mounting Technology: THT; Gender: Receptacle; Packaging: Tray
footprint 692221030100
pins: 1 VBUS, 2 D-, 3 D+, 4 GND, 5 StdB_SSTX-, 6 StdB_SSTX+, 7 GND_DRAIN, 8 StdB_SSRX-, 9 StdB_SSRX+, Shell Shield

## 692622030100
designator J?
Micro USB 3.0 Type B Receptacle WR-COM, Horizontal, SMT, with Pads; Part Number: 692622030100; Rated Current: 0.25 A; Contact Resistance: 50 mOhm; Working Voltage: 30 VAC; ComponentLink1Description: Manufacturer; ComponentLink1URL: http://www.we-online.de; ComponentLink2Description: Datasheet; ComponentLink2URL: https://katalog.we-online.de/em/datasheet/692622030100.pdf; Published Date: September 2018; Publisher: Wurth Elektronik; Orientation: Horizontal; Connector Type: Micro USB 3.0 Type B; Operating Temperature: -20 to 85 degC; Mounting Technology: SMT; Gender: Receptacle; Packaging: Tape and Reel
footprint 692622030100
pins: 1 VBUS, 2 D-, 3 D+, 4 ID, 5 GND, 6 MicB_SSTX-, 7 MicB_SSTX+, 8 GND_DRAIN, 9 MicB_SSRX-, 10 MicB_SSRX+, Shell Shield

## 692622420101
designator J?
Micro USB 3.0 Type B Receptacle WR-COM, Vertical, SMT, with Pads and Pegs; Part Number: 692622420101; Rated Current: 0.25 A; Contact Resistance: 30 mOhm; Working Voltage: 30 VAC; ComponentLink1Description: Manufacturer; ComponentLink1URL: http://www.we-online.de; ComponentLink2Description: Datasheet; ComponentLink2URL: https://katalog.we-online.de/em/datasheet/692622420101.pdf; Published Date: September 2018; Publisher: Wurth Elektronik; Orientation: Vertical; Connector Type: Micro USB 3.0 Type B; Operating Temperature: -30 to 85 degC; Mounting Technology: SMT; Gender: Receptacle; Packaging: Tape and Reel
footprint 692622420101
pins: 1 VBUS, 2 D-, 3 D+, 4 ID, 5 GND, 6 MicB_SSTX-, 7 MicB_SSTX+, 8 GND_DRAIN, 9 MicB_SSRX-, 10 MicB_SSRX+, Shell Shield